# Altium footprint library WP75xx 2 no usb_v.PCBLIB: 32 footprints (part 2 of 2)
Each footprint in its own frame and in the unit in brackets; x right, y up, seen from the top. Pads: shape width x height; smd on the part's side, far side on the other; paste and mask are expansions set on the pad; w line width, h text height; cw(c..) or ccw(c..) is an arc to the next point about the centre after c.
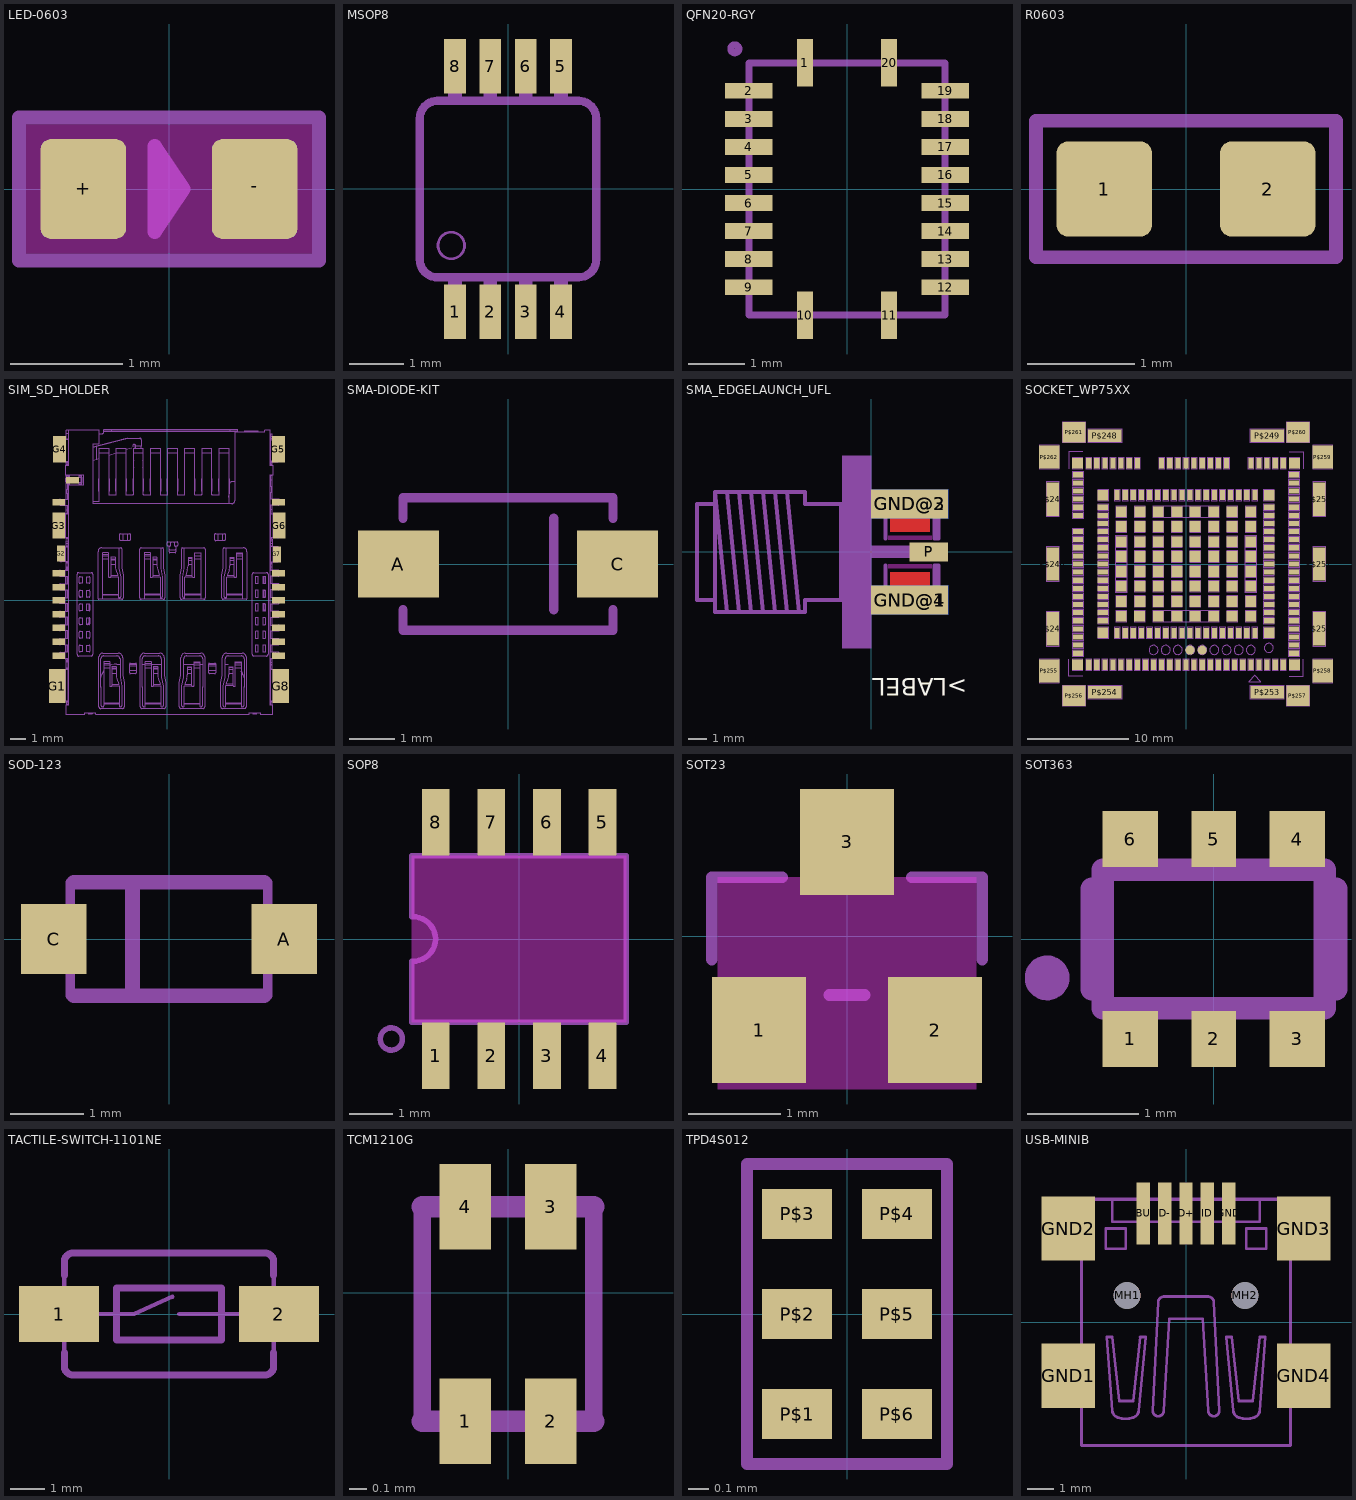
[diagram p1: the footprints below, top view; thin cyan lines are the x and y axes]

## LED-0603 [mil]
pads (2):
  rrect25% 30x35 smd: +(-30,0) -(30,0)
Top Layer keep-out:
  region: -50,-22.5 -50,22.5 50,22.5 50,-22.5
Mechanical 7:
  lines w5: -2.5,-10 -2.5,10 ; 0,-7.5 -5,-15 -5,15 0,7.5 ; 0,-7.5 5,0 0,7.5 ; 0,-7.5 0,7.5 ; -52.5,-25 52.5,-25 52.5,25 -52.5,25 -52.5,-25

## MSOP8 [mm]
pads (8):
  rect 0.4x1 smd: 1(-0.976,-2.263) 2(-0.326,-2.263) 3(0.324,-2.263) 4(0.974,-2.263) 5(0.974,2.262) 6(0.324,2.262) 7(-0.326,2.262) 8(-0.976,2.262)
Mechanical 3:
  region: -1.098,1.65 -1.098,2.506 -0.854,2.506 -0.854,1.65
  region: -0.448,1.65 -0.448,2.506 -0.204,2.506 -0.204,1.65
  region: 0.202,1.65 0.202,2.506 0.446,2.506 0.446,1.65
  region: 0.852,1.65 0.852,2.506 1.096,2.506 1.096,1.65
  region: -1.098,-2.507 -1.098,-1.65 -0.854,-1.65 -0.854,-2.507
  region: -0.448,-2.507 -0.448,-1.65 -0.204,-1.65 -0.204,-2.507
  region: 0.202,-2.507 0.202,-1.65 0.446,-1.65 0.446,-2.507
  region: 0.852,-2.507 0.852,-1.65 1.096,-1.65 1.096,-2.507
Mechanical 7:
  circle w0.051: c-1.046,-1.041 r0.245
  lines w0.152: -1.341,-1.626 1.299,-1.626 ccw(c1.299,-1.301) 1.624,-1.301 1.624,1.299 ccw(c1.299,1.299) 1.299,1.624 -1.301,1.624 ccw(c-1.301,1.299) -1.626,1.299 -1.626,-1.301 ccw(c-1.301,-1.301) -1.301,-1.626

## QFN20-RGY [mil]
pads (20):
  rect 11.02x33.46 smd: 1(-29.53,88.58) 10(-29.53,-88.58) 11(29.53,-88.58) 20(29.53,88.58)
  rect 33.46x11.02 smd: 2(-68.9,68.9) 3(-68.9,49.21) 4(-68.9,29.53) 5(-68.9,9.84) 6(-68.9,-9.84) 7(-68.9,-29.53) 8(-68.9,-49.21) 9(-68.9,-68.9) 12(68.9,-68.9) 13(68.9,-49.21) 14(68.9,-29.53) 15(68.9,-9.84) 16(68.9,9.84) 17(68.9,29.53) 18(68.9,49.21) 19(68.9,68.9)
Mechanical 7:
  circle w5: c-78.74,98.43 r2.78
  lines w5: -68.9,-88.58 68.9,-88.58 68.9,88.58 -68.9,88.58 -68.9,-88.58

## R0603 [mil]
pads (2):
  rrect25% 35x35 smd: 1(-30,0) 2(30,0)
Mechanical 7:
  lines w5: -55,-25 55,-25 55,25 -55,25 -55,-25

## SIM_SD_HOLDER [mil]
pads (25):
  rect 32x16 smd: -(-273.62,0) --(-273.62,-139.76) C1(281.5,-139.76) C2(281.5,-104.33) C3(-273.62,-104.33) C4(281.5,0) C5(281.5,-68.9) C6(-273.62,-68.9) SW(-238.98,303.54) T1(281.5,248.03) T2(281.5,68.9) T3(281.5,33.46) T4(281.5,-35.43) T5(-273.62,-35.43) T6(-273.62,33.46) T7(-273.62,68.9) T8(-273.62,248.03)
  rect 42x86 smd: G1(-277.56,-216.54) G8(287.4,-216.54)
  rect 20x40 smd: G2(-267.72,118.11) G7(277.56,116.14)
  rect 32x66 smd: G3(-273.62,188.98) G4(-271.65,381.89) G5(281.5,381.89) G6(283.46,188.98)
Mechanical 3:
  drawing of 1971 lines, arcs and shapes, not listed

## SMA-DIODE-KIT [mil]
pads (2):
  rect 69.69x57.87 smd: A(-94.49,0) C(94.49,0)
Mechanical 7:
  lines w8: -90.55,-39.37 -90.55,-57.09 90.55,-57.09 90.55,-39.37 ; -90.55,39.37 -90.55,57.09 90.55,57.09 90.55,39.37 ; 39.37,-39.37 39.37,39.37

## SMA_EDGELAUNCH_UFL [mil]
pads (5):
  rect 160x60 smd paste+0: GND@1(80,-100) GND@2(80,100)
  rect 160x60 smd far side paste+0: GND@3(80,100) GND@4(80,-100)
  rect 80x40 smd paste+0: P(120,0)
Top Layer:
  region: 40,41.94 40,125 122,125 122,41.94
  region: 122,-41.94 122,-125 40,-125 40,-41.94
Top Layer keep-out:
  region: 36,-34 36,-25 126,-25 126,-34
  region: 36,25 36,34 126,34 126,25
Top Overlay:
  text ">LABEL" at 200,-250 h62
Top Paste:
  region: 126,-19 126,19 156,19 156,-19
  region: 39,38.94 39,70.94 123,70.94 123,38.94
  region: 123,-38.94 123,-70.94 39,-70.94 39,-38.94
Top Solder:
  region: 35,36.94 35,72.94 127,72.94 127,36.94
  region: 127,-36.94 127,-72.94 35,-72.94 35,-36.94
Mechanical 3:
  region: 0,-12.5 0,12.5 125,12.5 125,-12.5
  region: -60,120 150,120 150,80 0,80 0,-80 150,-80 150,-120 -60,-120
  region: -60,200 0,200 0,-200 -60,-200
  lines w8: 29.82,-27.56 29.82,-82.68 132.18,-82.68 ; 29.82,27.56 29.82,82.68 132.18,82.68 ; 136.12,-78.74 136.12,-27.56 ; 136.12,27.56 136.12,78.74 ; -325,-100 -325,-125 -300,-125 ; -325,-100 -362.5,-100 -362.5,100 -325,100 ; -325,-100 -325,100 ; -325,100 -325,125 ; -325,125 -300,125 ; -325,125 -300,-125 ; -300,-125 -275,-125 ; -300,125 -275,125 ; -300,125 -275,-125 ; -275,-125 -250,-125 ; -275,125 -250,125 ; -275,125 -250,-125 ; -250,-125 -225,-125 ; -250,125 -225,125 ; -250,125 -225,-125 ; -225,-125 -200,-125 ; -225,125 -200,125 ; -225,125 -200,-125 ; -200,-125 -175,-125 ; -200,125 -175,125 ; -200,125 -175,-125 ; -175,-125 -150,-125 ; -175,125 -137.5,125 -137.5,100 -62.5,100 -62.5,-100 -137.5,-100 -137.5,-125 -150,-125 ; -175,125 -150,-125 ; 132.18,-82.68 132.18,-27.56 140.06,-27.56 140.06,-82.68 132.18,-82.68 ; 132.18,82.68 132.18,27.56 140.06,27.56 140.06,82.68 132.18,82.68

## SOCKET_WP75XX [mil]
pads (249):
  rect 20x40 smd: P$1(267.72,-267.72) P$2(236.22,-267.72) P$3(204.72,-267.72) P$4(173.23,-267.72) P$5(141.73,-267.72) P$6(110.24,-267.72) P$7(78.74,-267.72) P$8(47.24,-267.72) P$9(15.75,-267.72) P$10(-15.75,-267.72) P$11(-47.24,-267.72) P$12(-78.74,-267.72) P$13(-110.24,-267.72) P$14(-141.73,-267.72) P$15(-173.23,-267.72) P$16(-204.72,-267.72) P$17(-236.22,-267.72) P$18(-267.72,-267.72) P$34(-267.72,267.72) P$35(-236.22,267.72) P$36(-204.72,267.72) P$37(-173.23,267.72) P$38(-141.73,267.72) P$39(-110.24,267.72) P$40(-78.74,267.72) P$41(-47.24,267.72) P$42(-15.75,267.72) P$43(15.75,267.72) P$44(47.24,267.72) P$45(78.74,267.72) P$46(110.24,267.72) P$47(141.73,267.72) P$48(173.23,267.72) P$49(204.72,267.72) P$50(236.22,267.72) P$51(267.72,267.72) P$71(377.95,-391.73) P$72(346.46,-391.73) P$73(314.96,-391.73) P$74(283.46,-391.73) P$75(251.97,-391.73) P$76(220.47,-391.73) P$77(188.98,-391.73) P$78(157.48,-391.73) P$79(125.98,-391.73) P$80(94.49,-391.73) P$81(62.99,-391.73) P$82(31.5,-391.73) P$83(0,-391.73) P$84(-31.5,-391.73) P$85(-62.99,-391.73) P$86(-94.49,-391.73) P$87(-125.98,-391.73) P$88(-157.48,-391.73) P$89(-188.98,-391.73) P$90(-220.47,-391.73) P$91(-251.97,-391.73) P$92(-283.46,-391.73) P$93(-314.96,-391.73) P$94(-346.46,-391.73) P$95(-377.95,-391.73) P$119(-377.95,391.73) P$120(-346.46,391.73) P$121(-314.96,391.73) P$122(-283.46,391.73) P$123(-251.97,391.73) P$124(-220.47,391.73) P$125(-188.98,391.73) P$128(-94.49,391.73) P$129(-62.99,391.73) P$130(-31.5,391.73) P$131(0,391.73) P$132(31.5,391.73) P$133(62.99,391.73) P$134(94.49,391.73) P$135(125.98,391.73) P$136(157.48,391.73) P$139(251.97,391.73) P$140(283.46,391.73) P$141(314.96,391.73) P$142(346.46,391.73) P$143(377.95,391.73)
  rect 40x20 smd: P$19(-322.83,-220.47) P$20(-322.83,-188.98) P$21(-322.83,-157.48) P$22(-322.83,-125.98) P$23(-322.83,-94.49) P$24(-322.83,-62.99) P$25(-322.83,-31.5) P$26(-322.83,0) P$27(-322.83,31.5) P$28(-322.83,62.99) P$29(-322.83,94.49) P$30(-322.83,125.98) P$31(-322.83,157.48) P$32(-322.83,188.98) P$33(-322.83,220.47) P$52(322.83,220.47) P$53(322.83,188.98) P$54(322.83,157.48) P$55(322.83,125.98) P$56(322.83,94.49) P$57(322.83,62.99) P$58(322.83,31.5) P$59(322.83,0) P$60(322.83,-31.5) P$61(322.83,-62.99) P$62(322.83,-94.49) P$63(322.83,-125.98) P$64(322.83,-157.48) P$65(322.83,-188.98) P$66(322.83,-220.47) P$96(-419.29,-346.46) P$97(-419.29,-314.96) P$98(-419.29,-283.46) P$99(-419.29,-251.97) P$100(-419.29,-220.47) P$101(-419.29,-188.98) P$102(-419.29,-157.48) P$103(-419.29,-125.98) P$104(-419.29,-94.49) P$105(-419.29,-62.99) P$106(-419.29,-31.5) P$107(-419.29,0) P$108(-419.29,31.5) P$109(-419.29,62.99) P$110(-419.29,94.49) P$111(-419.29,125.98) P$113(-419.29,188.98) P$114(-419.29,220.47) P$115(-419.29,251.97) P$116(-419.29,283.46) P$117(-419.29,314.96) P$118(-419.29,346.46) P$144(419.29,346.46) P$145(419.29,314.96) P$146(419.29,283.46) P$147(419.29,251.97) P$148(419.29,220.47) P$149(419.29,188.98) P$150(419.29,157.48) P$151(419.29,125.98) P$152(419.29,94.49) P$153(419.29,62.99) P$154(419.29,31.5) P$155(419.29,0) P$156(419.29,-31.5) P$157(419.29,-62.99) P$158(419.29,-94.49) P$159(419.29,-125.98) P$160(419.29,-157.48) P$161(419.29,-188.98) P$162(419.29,-220.47) P$163(419.29,-251.97) P$164(419.29,-283.46) P$165(419.29,-314.96) P$166(419.29,-346.46)
  rect 41.34x41.34 smd: P$67(322.83,-267.72) P$68(-322.83,-267.72) P$69(-322.83,267.72) P$70(322.83,267.72) P$167(421.26,-391.73) P$168(-421.26,-391.73) P$169(-421.26,391.73) P$170(421.26,391.73)
  rect 41.73x41.73 smd: P$171(251.97,-202.76) P$172(251.97,-145.67) P$173(251.97,-86.61) P$174(251.97,-29.53) P$175(251.97,29.53) P$176(251.97,86.61) P$177(251.97,145.67) P$178(251.97,202.76) P$179(179.13,202.76) P$180(108.27,202.76) P$181(35.43,202.76) P$182(-35.43,202.76) P$183(-108.27,202.76) P$184(-179.13,202.76) P$185(-251.97,202.76) P$186(-251.97,145.67) P$187(-251.97,86.61) P$188(-251.97,29.53) P$189(-251.97,-29.53) P$190(-251.97,-86.61) P$191(-251.97,-145.67) P$192(-251.97,-202.76) P$193(-181.1,-202.76) P$194(-108.27,-202.76) P$195(-35.43,-202.76) P$196(35.43,-202.76) P$197(108.27,-202.76) P$198(179.13,-202.76) P$199(179.13,-145.67) P$200(179.13,-86.61) P$201(179.13,-29.53) P$202(179.13,29.53) P$203(179.13,86.61) P$204(179.13,145.67) P$205(108.27,145.67) P$206(35.43,145.67) P$207(-35.43,145.67) P$208(-108.27,145.67) P$209(-179.13,145.67) P$210(-179.13,86.61) P$211(-179.13,29.53) P$212(-179.13,-29.53) P$213(-179.13,-86.61) P$214(-179.13,-145.67) P$215(-108.27,-145.67) P$216(-35.43,-145.67) P$217(35.43,-145.67) P$218(108.27,-145.67) P$219(108.27,-86.61) P$220(108.27,-29.53) P$221(108.27,29.53) P$222(108.27,86.61) P$223(35.43,86.61) P$224(-35.43,86.61) P$225(-108.27,86.61) P$226(-108.27,29.53) P$227(-108.27,-29.53) P$228(-108.27,-86.61) P$229(-35.43,-86.61) P$230(35.43,-86.61) P$231(35.43,-29.53) P$232(35.43,29.53) P$233(-35.43,29.53) P$234(-35.43,-29.53)
  rrect100% 35.43x35.43 smd: P$240(62.99,-334.65) P$241(15.75,-334.65)
  rect 50x129.92 smd: P$245(-517.72,-251.97) P$246(-517.72,0) P$247(-517.72,251.97) P$250(517.72,251.97) P$251(517.72,0) P$252(517.72,-251.97)
  rect 129.92x50 smd: P$248(-314.96,498.03) P$249(314.96,498.03) P$253(314.96,-498.03) P$254(-314.96,-498.03)
  rect 78.74x90.55 smd: P$255(-531.5,-415.35) P$258(531.5,-415.35) P$259(531.5,415.35) P$262(-531.5,415.35)
  rect 90.55x78.74 smd: P$256(-435.04,-511.81) P$257(435.04,-511.81) P$260(435.04,511.81) P$261(-435.04,511.81)
Mechanical 4:
  drawing of 1025 lines, arcs and shapes, not listed

## SOD-123 [mil]
pads (2):
  rect 35.43x37.4 smd: A(62.01,0) C(-62.01,0)
Mechanical 3:
  lines w5: -53.15,-30.51 53.15,-30.51 53.15,30.51 -53.15,30.51 -53.15,-30.51
Mechanical 7:
  lines w8: -51.18,-30.51 -19.69,-30.51 ; -51.18,30.51 -19.69,30.51 ; 51.18,-30.51 -19.69,-30.51 ; 51.18,30.51 -19.69,30.51 ; -19.69,-30.51 -19.69,30.51

## SOP8 [mil]
pads (8):
  rect 25x60 smd: 1(-75,-105) 2(-25,-105) 3(25,-105) 4(75,-105) 5(75,105) 6(25,105) 7(-25,105) 8(-75,105)
Top Layer keep-out:
  region: -96.46,-75 -96.46,75 96.46,75 96.46,-75
Mechanical 7:
  circle w5: c-115,-90 r10
  lines w5: -96.46,-75 96.46,-75 96.46,75 -96.46,75 -96.46,20 cw(c-95.73,-0.73) -75,0 cw(c-95.73,0.73) -96.46,-20 -96.46,-75

## SOT23 [mil]
pads (3):
  rect 40x45 smd: 1(-37.4,-40) 2(37.4,-40) 3(0,40)
Top Layer keep-out:
  region: -55,-65 -55,25 55,25 55,-65
Mechanical 3:
  region: -9,28 -9,51 9,51 9,28
  region: 28,-51 28,-28 46,-28 46,-51
  region: -46,-51 -46,-28 -28,-28 -28,-51
Mechanical 7:
  lines w5: -57.5,-10 -57.5,25 -27.5,25 ; -7.5,-25 7.5,-25 ; 27.5,25 57.5,25 57.5,-10

## SOT363 [mil]
pads (6):
  rect 19.69x19.69 smd: 1(-29.53,-35.43) 3(29.53,-35.43) 4(29.53,35.43) 6(-29.53,35.43)
  rect 15.75x19.69 smd: 2(0,-35.43) 5(0,35.43)
Mechanical 3:
  region: -4.92,-41.34 -4.92,-27.56 4.92,-27.56 4.92,-41.34
  region: -30.51,-41.34 -30.51,-27.56 -20.67,-27.56 -20.67,-41.34
  region: 20.67,-41.34 20.67,-27.56 30.51,-27.56 30.51,-41.34
  region: -30.51,27.56 -30.51,41.34 -20.67,41.34 -20.67,27.56
  region: -4.92,27.56 -4.92,41.34 4.92,41.34 4.92,27.56
  region: 20.67,27.56 20.67,41.34 30.51,41.34 30.51,27.56
  lines w8: -39.37,-24.61 39.37,-24.61 39.37,24.61 -39.37,24.61 -39.37,-24.61
Mechanical 7:
  circle w8: c-59.06,-13.78 r3.94
  lines w8: -43.31,-17.72 -43.31,17.72 ; 43.31,-17.72 43.31,17.72

## TACTILE-SWITCH-1101NE [mil]
pads (2):
  rect 90.55x62.99 smd: 1(-124.02,0) 2(124.02,0)
Mechanical 3:
  lines w5: -118.11,-43.31 -118.11,43.31 ; -78.74,0 -39.37,0 3.94,19.69 ; 11.81,0 78.74,0 ; 118.11,-43.31 118.11,43.31
Mechanical 7:
  lines w8: -118.11,-43.31 -118.11,-59.06 ccw(c-108.27,-59.06) -108.27,-68.9 108.27,-68.9 ccw(c108.27,-59.06) 118.11,-59.06 118.11,-43.31 ; -118.11,43.31 -118.11,59.06 cw(c-108.27,59.06) -108.27,68.9 108.27,68.9 cw(c108.27,59.06) 118.11,59.06 118.11,43.31 ; -59.06,-29.53 59.06,-29.53 59.06,29.53 -59.06,29.53 -59.06,-29.53

## TCM1210G [mil]
pads (4):
  rect 11.81x19.69 smd: 1(-9.84,-29.53) 2(9.84,-29.53) 3(9.84,19.69) 4(-9.84,19.69)
Mechanical 7:
  lines w3.94: -19.69,-29.53 -19.69,19.69 ; 19.69,-29.53 19.69,19.69
  lines w5: -19.69,-29.53 19.69,-29.53 ; -19.69,19.69 19.69,19.69

## TPD4S012 [mm]
pads (6):
  rect 0.35x0.25 smd: P$1(-0.25,-0.5) P$2(-0.25,0) P$3(-0.25,0.5) P$4(0.25,0.5) P$5(0.25,0) P$6(0.25,-0.5)
Mechanical 7:
  lines w0.06: -0.5,-0.75 0.5,-0.75 0.5,0.75 -0.5,0.75 -0.5,-0.75

## USB-MINIB [mm]
pads (11):
  rect 0.5x2.308 smd: D+(0,4.064) D-(-0.8,4.064) GND(1.6,4.064) ID(0.8,4.064) VBUS(-1.6,4.064)
  rect 2x2.4 smd: GND1(-4.4,-2) GND2(-4.4,3.5) GND3(4.4,3.5) GND4(4.4,-2)
  round 1 hole 1 unplated: MH1(-2.2,1) MH2(2.2,1)
Mechanical 3:
  lines w0.102: -5.08,-2.67 -5.08,-2.32 ccw(c-5.08,-2.02) -5.08,-1.72 -5.08,-1.32 ; -5.08,2.87 -5.08,3.22 ccw(c-5.08,3.52) -5.08,3.82 -5.08,4.22 ; -5.06,-2.679 -3.91,-2.679 ; -5.06,-1.301 -3.91,-1.301 ; -5.06,2.861 -3.91,2.861 ; -5.06,4.239 -3.91,4.239 ; -2.75,4.5 -2.75,3.75 2.75,3.75 2.75,4.5 ; -1.038,-3.506 cw(c-1.038,-3.299) -1.246,-3.298 -1.038,0.751 cw(c-0.819,0.739) -0.831,0.958 0.83,0.958 cw(c0.818,0.739) 1.038,0.751 1.246,-3.298 cw(c1.038,-3.299) 1.038,-3.506 cw(c1.038,-3.298) 0.83,-3.298 0.623,0.128 -0.623,0.128 -0.831,-3.298 cw(c-1.038,-3.299) -1.038,-3.506 ; 3.88,-2.659 5.03,-2.659 ; 3.88,-1.281 5.03,-1.281 ; 3.88,2.881 5.03,2.881 ; 3.88,4.259 5.03,4.259 ; 5.05,-2.64 5.05,-2.24 cw(c5.05,-1.94) 5.05,-1.64 5.05,-1.29 ; 5.05,2.9 5.05,3.3 cw(c5.05,3.6) 5.05,3.9 5.05,4.25 ; -3,2.75 -2.25,2.75 -2.25,3.5 -3,3.5 -3,2.75 ; -2.959,-0.547 -2.751,-3.298 ccw(c-2.457,-3.276) -2.544,-3.558 ccw(c-2.258,-2.627) -1.973,-3.558 ccw(c-2.059,-3.276) -1.765,-3.298 -1.505,-0.547 -1.713,-0.547 -1.973,-2.935 -2.492,-2.935 -2.751,-0.547 -2.959,-0.547 ; 1.505,-0.547 1.765,-3.298 ccw(c2.059,-3.276) 1.973,-3.558 ccw(c2.258,-2.627) 2.544,-3.558 ccw(c2.457,-3.276) 2.751,-3.298 2.959,-0.547 2.751,-0.547 2.492,-2.935 1.973,-2.935 1.713,-0.547 1.505,-0.547 ; 2.25,2.75 2.25,3.5 3,3.5 3,2.75 2.25,2.75
  lines w0.127: -3.9,-4.6 -3.9,-2.7 ; -3.9,-1.29 -3.9,2.81 ; -3.9,4.25 -3.9,4.6 ; 3.9,-4.6 3.9,-2.7 ; 3.9,-1.24 3.9,2.86 ; 3.9,4.3 3.9,4.6
Mechanical 7:
  lines w0.127: -3.9,-4.6 3.9,-4.6 ; -3.9,-0.6 -3.9,2.1 ; -3.9,4.6 2.1,4.6 3.2,4.6 3.9,4.6 ; 3.9,-0.6 3.9,2.1